# Altium footprint library B8B-XH-A.PcbLib: 1 footprints
Each footprint in its own frame and in the unit in brackets; x right, y up, seen from the top. Pads: shape width x height; smd on the part's side, far side on the other; paste and mask are expansions set on the pad; w line width, h text height; cw(c..) or ccw(c..) is an arc to the next point about the centre after c.
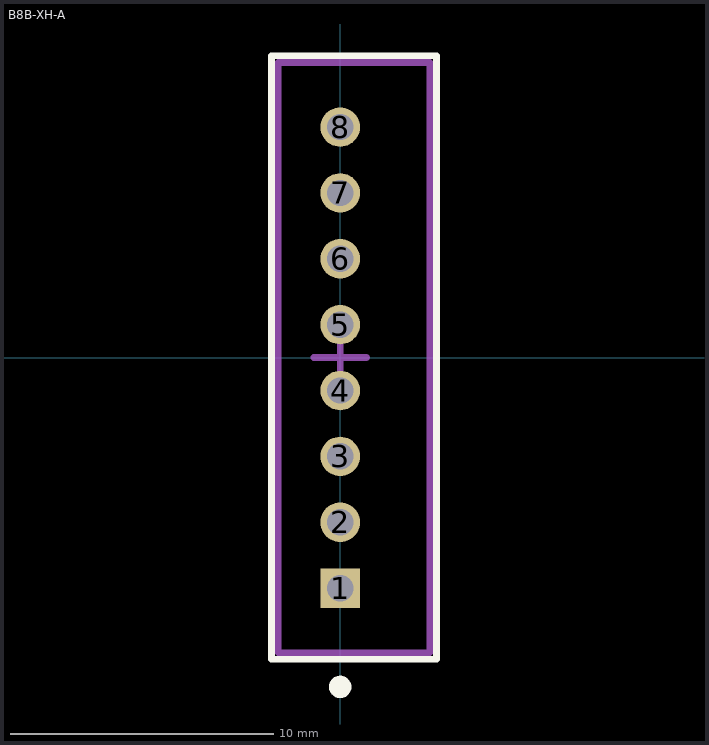
[diagram p0: the footprint, top view; thin cyan lines are the x and y axes]

## B8B-XH-A [mm]
pads (8):
  rect 1.5x1.5 hole 1 mask+0.051: 1(0,-8.75)
  round 1.5 hole 1 mask+0.051: 2(0,-6.25) 3(0,-3.75) 4(0,-1.25) 5(0,1.25) 6(0,3.75) 7(0,6.25) 8(0,8.75)
Top Overlay:
  circle w0.45: c0,-12.5 r0.2
  lines w0.254: -2.604,-11.454 3.654,-11.454 3.654,11.454 -2.604,11.454 -2.604,-11.454
Mechanical 13:
  lines w0.254: -2.35,-11.2 3.4,-11.2 3.4,11.2 -2.35,11.2 -2.35,-11.2
Mechanical 15:
  lines w0.254: -1,0 0,0 ; 0,-1 0,0 ; 0,1 0,0 ; 1,0 0,0
3D body "B8B-XH-A.STEP": height 7, standoff -3.4, extent -2.35,-11.2 3.4,11.2